# Altium integrated library TI Amplifiers and Linear Special Function Amplifier.IntLib: 708 symbols (part 18 of 47)
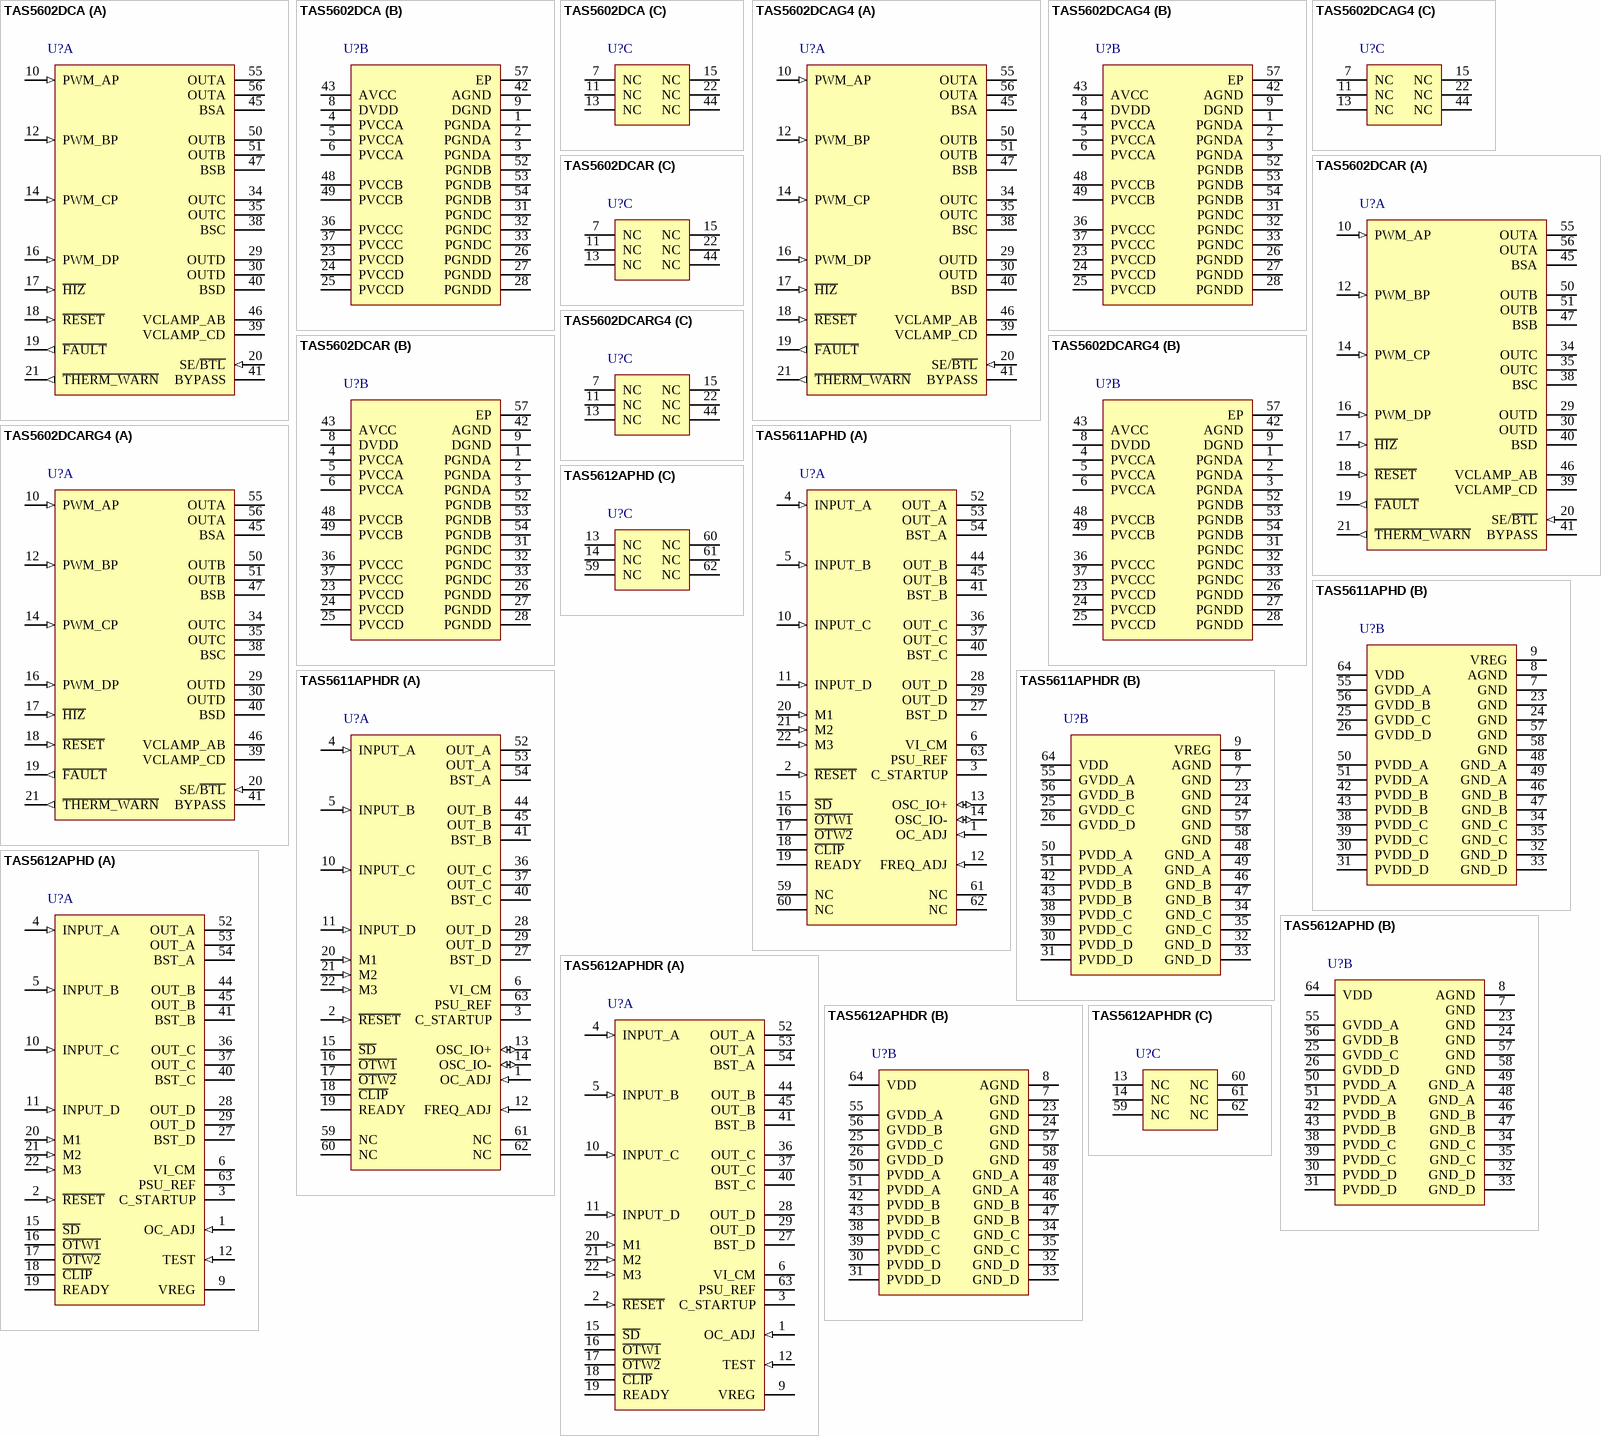
[diagram p56: symbols TAS5602DCA to TAS5612APHDR]

## TAS5612APHDR
designator U?
125 W Stereo / 250 W Mono PurePath(TM) HD Digital-Input Power Stage, 0 to 70 degC, 64-pin QFP (PHD64), Green (RoHS & no Sb/Br); Manufacturer: Texas Instruments; PartNumber: TAS5612APHDR; Analog Supply Max [V]: 13.2; Analog Supply Min [V]: 10.8; Input Type: PWM; Max. Number of Speaker Outputs: 4; Power Stage Supply Min(V): 16; SubFamily: Mid/High-Power Amplifier; DatasheetVersion: SLAS710B; PackageVersion: 4087742/E, 10/2008; PackageReference: PHD64; PackageDescription: 64-Pin Plastic Flat Pack, Body 14 x 14 mm, Pitch 0.8 mm; Supplier 1: Digi-Key; Supplier Part Number 1: 296-27615-2-ND; Supplier 2: Digi-Key; Supplier Part Number 2: 296-27615-1-ND; Supplier 3: Digi-Key; Supplier Part Number 3: 296-27615-6-ND; Supplier 4: Farnell; Supplier Part Number 4: 1839416; Supplier 5: Farnell; Supplier Part Number 5: 1836273; Supplier 6: Newark; Supplier Part Number 6: 23T1386; Supplier 7: Mouser; Supplier Part Number 7: 595-TAS5612APHDR; Eco-Plan: Green (RoHS & no Sb/Br); Mounting Technology: Surface Mount; Code_JEDEC: MS-026; ComponentLink1Description: Manufacturer URL; ComponentLink1URL: http://www.ti.com/; ComponentLink2Description: Datasheet; ComponentLink2URL: http://www.ti.com/general/docs/lit/getliterature.tsp?genericPartNumber=TAS5612A&fileType=pdf; ComponentLink3Description: Package Specification; ComponentLink3URL: http://www.ti.com/lit/ml/mpqf047d/mpqf047d.pdf
footprint TI-PHD64_N (QFP, 64-Leads, Body 14x14mm, Pitch 0.8mm, IPC Medium Density)
footprint TI-PHD64_L (QFP, 64-Leads, Body 14x14mm, Pitch 0.8mm, IPC High Density)
footprint TI-PHD64_M (QFP, 64-Leads, Body 14x14mm, Pitch 0.8mm, IPC Low Density)
part A pins: 1 OC_ADJ (in) "Analog overcurrent programming pin requires resistor to ground.", 2 ~{RESET} (in) "Device reset input; active-low", 3 C_STARTUP "Startup ramp requires a charging capacitor of 4.7 nF to GND", 4 INPUT_A (in) "Input signal for half bridge A", 5 INPUT_B (in) "Input signal for half bridge B", 6 VI_CM "Analog comparator reference node requires close decoupling of 4.7uF to GND", 9 VREG "Digital regulator supply filter pin requires 0.1uF capacitor to GND.", 10 INPUT_C (in) "Input signal for half bridge C", 11 INPUT_D (in) "Input signal for half bridge D", 12 TEST (in) "Connect to VREG node", 15 ~{SD} (oc) "Shutdown signal, open-drain, active-low", 16 ~{OTW1} (oc) "Overtemperature warning signal, open-drain, active-low", 17 ~{OTW2} (oc) "Overtemperature warning signal, open-drain, active-low", 18 ~{CLIP} (oc) "Clipping warning; open drain; active-low", 19 READY (oc) "Normal operation; open-drain; active-high", 20 M1 (in) "Mode selection", 21 M2 (in) "Mode selection", 22 M3 (in) "Mode selection", 27 BST_D "HS bootstrap supply (BST), external 0.033uF capacitor to OUT_D required.", 28 OUT_D (hiz) "Output, half bridge D", 29 OUT_D (hiz) "Output, half bridge D", 36 OUT_C (hiz) "Output, half bridge C", 37 OUT_C (hiz) "Output, half bridge C", 40 BST_C "HS bootstrap supply (BST), external 0.033uF capacitor to OUT_C required.", 41 BST_B "HS bootstrap supply (BST), external 0.033uF capacitor to OUT_B required.", 44 OUT_B (hiz) "Output, half bridge B", 45 OUT_B (hiz) "Output, half bridge B", 52 OUT_A (hiz) "Output, half bridge A", 53 OUT_A (hiz) "Output, half bridge A", 54 BST_A "HS bootstrap supply (BST), external 0.033uF capacitor to OUT_A required.", 63 PSU_REF "PSU Reference requires close decoupling of 4.7uF to GND"
part B pins: 7 GND (power) "Ground", 8 AGND (power) "Analog ground", 23 GND (power) "Ground", 24 GND (power) "Ground", 25 GVDD_C (power) "Gate drive voltage supply requires 0.1uF capacitor to GND", 26 GVDD_D (power) "Gate drive voltage supply requires 0.1uF capacitor to GND", 30 PVDD_D (power) "Power supply input for half bridge D requires close decoupling of 2uF capacitor GND_D", 31 PVDD_D (power) "Power supply input for half bridge D requires close decoupling of 2uF capacitor GND_D", 32 GND_D (power) "Power ground for half bridge D", 33 GND_D (power) "Power ground for half bridge D", 34 GND_C (power) "Power ground for half bridge C", 35 GND_C (power) "Power ground for half bridge C", 38 PVDD_C (power) "Power supply input for half bridge C requires close decoupling of 2uF capacitor GND_C", 39 PVDD_C (power) "Power supply input for half bridge C requires close decoupling of 2uF capacitor GND_C", 42 PVDD_B (power) "Power supply input for half bridge B requires close decoupling of 2uF capacitor GND_B", 43 PVDD_B (power) "Power supply input for half bridge B requires close decoupling of 2uF capacitor GND_B", 46 GND_B (power) "Power ground for half bridge B", 47 GND_B (power) "Power ground for half bridge B", 48 GND_A (power) "Power ground for half bridge A", 49 GND_A (power) "Power ground for half bridge A", 50 PVDD_A (power) "Power supply input for half bridge A requires close decoupling of 2uF capacitor GND_A", 51 PVDD_A (power) "Power supply input for half bridge A requires close decoupling of 2uF capacitor GND_A", 55 GVDD_A (power) "Gate-drive voltage supply requires 0.1uF capacitor to GND", 56 GVDD_B (power) "Gate drive voltage supply requires 0.1uF capacitor to GND", 57 GND (power) "Ground", 58 GND (power) "Ground", 64 VDD (power) "Power supply for digital voltage regulator requires a 47uF capacitor in parallel with a 0.1uF capacitor to GND for decoupling."
part C pins: 13 NC "No connect, pins may be grounded.", 14 NC "No connect, pins may be grounded.", 59 NC "No connect; pins may be grounded.", 60 NC "No connect; pins may be grounded.", 61 NC "No connect; pins may be grounded.", 62 NC "No connect; pins may be grounded."

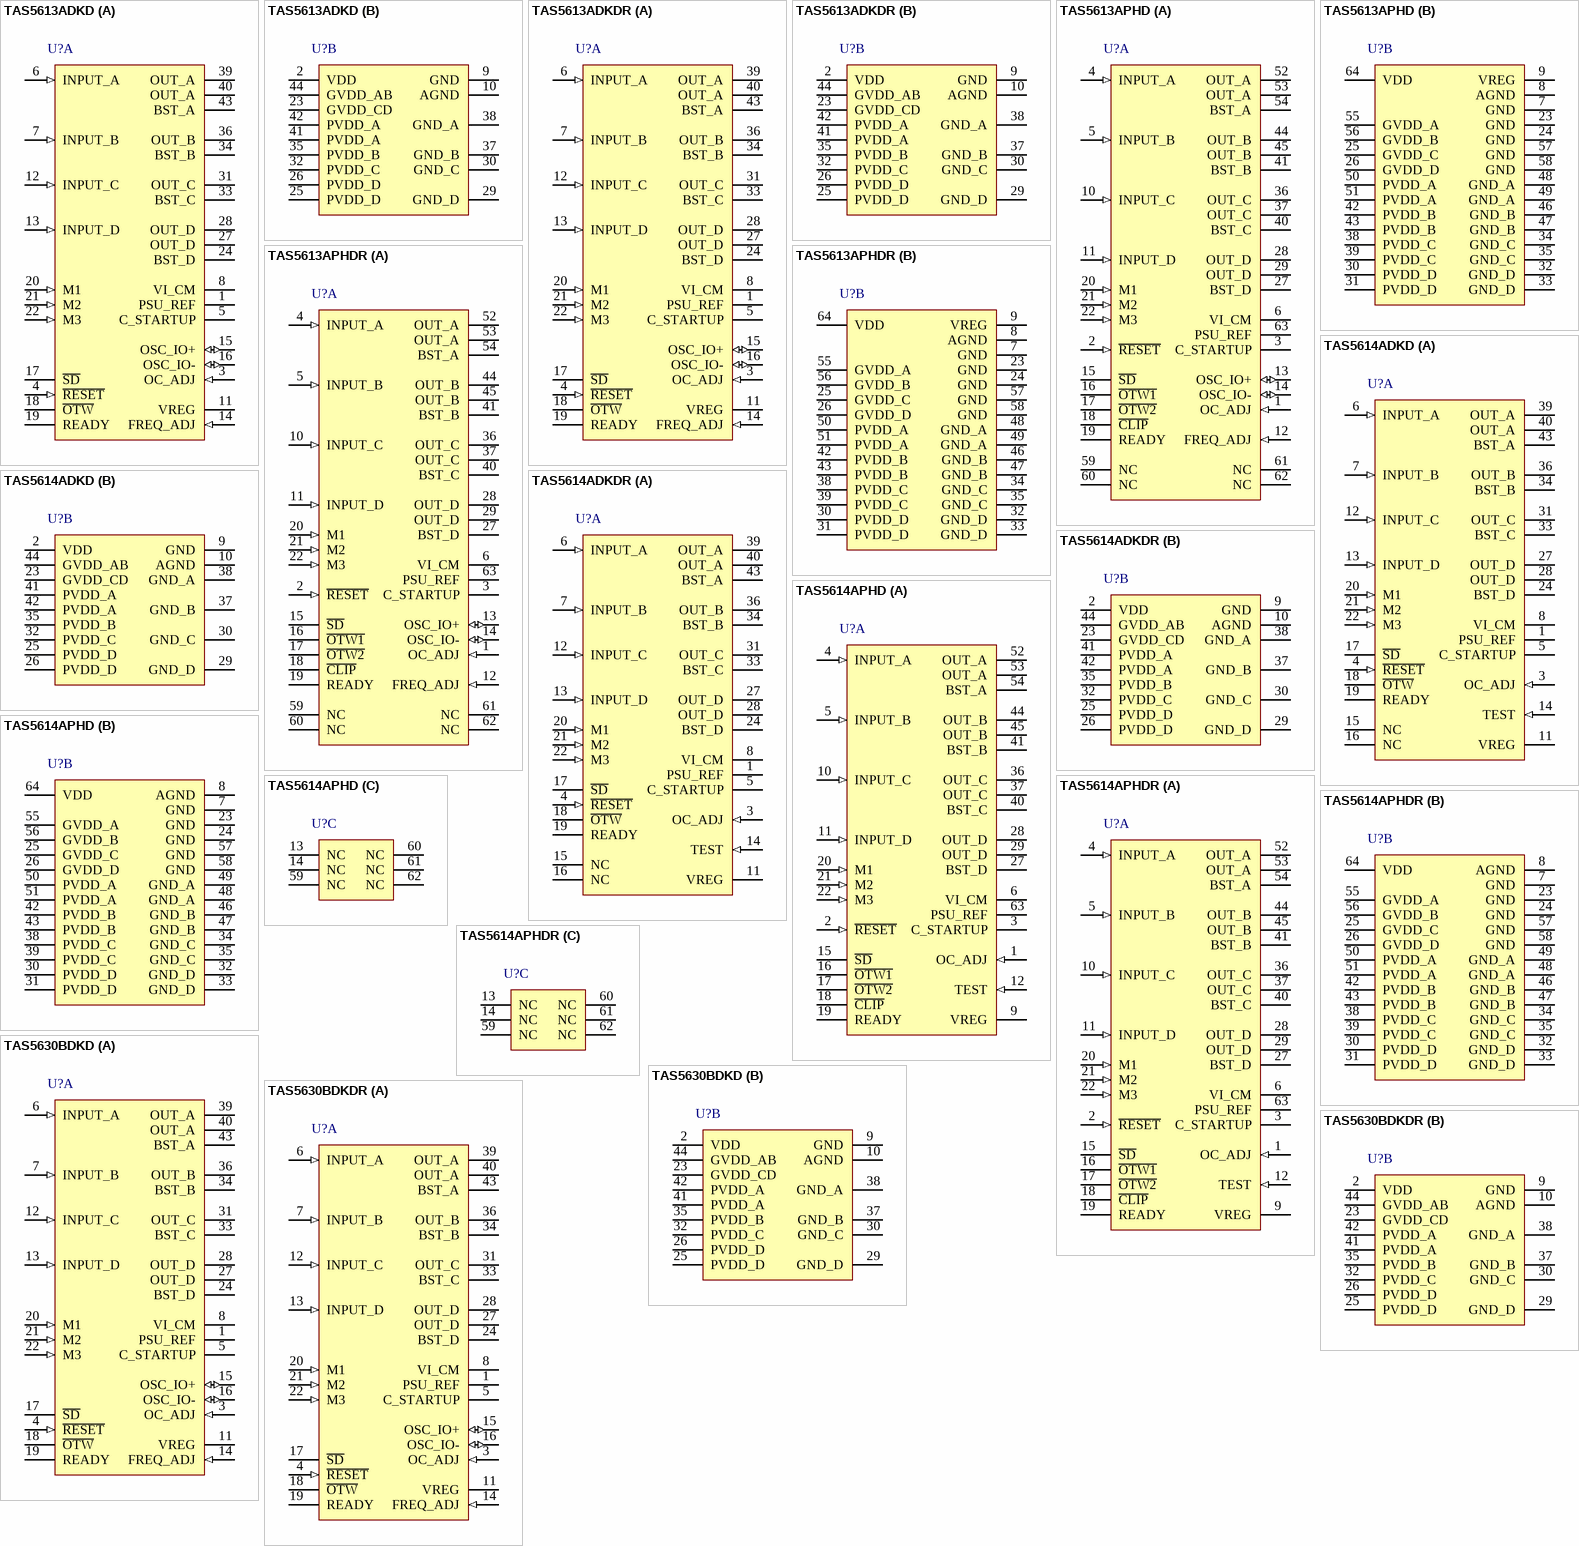
[diagram p17: symbols TAS5613ADKD to TAS5630BDKDR]

## TAS5613ADKD
designator U?
150 W Stereo / 300 W Mono PurePath(TM) HD Analog-Input Power Stage, 0 to 70 degC, 44-pin SOP (DKD44), Green (RoHS & no Sb/Br); Manufacturer: Texas Instruments; PartNumber: TAS5613ADKD; Analog Supply Max [V]: 13.2; Analog Supply Min [V]: 10.8; Input Type: Analog; Max. Number of Speaker Outputs: 4; Power Stage Supply Min(V): 18; SubFamily: Mid/High-Power Amplifier; DatasheetVersion: SLAS711B; PackageVersion: 4204421-3/K, 06/2012; PackageReference: DKD44; PackageDescription: 44-Pin Plastic Small Outline, Body 11 x 15.9 mm, Pitch 0.65 mm; Supplier 1: Digi-Key; Supplier Part Number 1: TAS5613ADKD-ND; Supplier 2: Mouser; Supplier Part Number 2: 595-TAS5613ADKD; Eco-Plan: Green (RoHS & no Sb/Br); Mounting Technology: Surface Mount; ComponentLink1Description: Manufacturer URL; ComponentLink1URL: http://www.ti.com/; ComponentLink2Description: Datasheet; ComponentLink2URL: http://www.ti.com/general/docs/lit/getliterature.tsp?genericPartNumber=TAS5613A&fileType=pdf; ComponentLink3Description: Package Specification; ComponentLink3URL: http://www.ti.com/litv/pdf/mpdi001b
footprint TI-DKD44_N (SOP, 44-Leads, Body 15.9x11mm, Pitch 0.65mm, IPC Medium Density)
footprint TI-DKD44_L (SOP, 44-Leads, Body 15.9x11mm, Pitch 0.65mm, IPC High Density)
footprint TI-DKD44_M (SOP, 44-Leads, Body 15.9x11mm, Pitch 0.65mm, IPC Low Density)
part A pins: 1 PSU_REF, 3 OC_ADJ (in), 4 ~{RESET} (in) "Device reset Input; active low", 5 C_STARTUP, 6 INPUT_A (in) "Input signal for half bridge A", 7 INPUT_B (in) "Input signal for half bridge B", 8 VI_CM, 11 VREG, 12 INPUT_C (in) "Input signal for half bridge C", 13 INPUT_D (in) "Input signal for half bridge D", 14 FREQ_ADJ (in), 15 OSC_IO+ (io) "Oscillator master/slave output/input.", 16 OSC_IO- (io) "Oscillator master/slave output/input.", 17 ~{SD} (oc) "Shutdown signal, open-drain, active-low", 18 ~{OTW} (oc) "Overtemperature warning signal, open-drain, active-low", 19 READY (oc) "Normal operation; open-drain; active-high", 20 M1 (in) "Mode selection", 21 M2 (in) "Mode selection", 22 M3 (in) "Mode selection", 24 BST_D "HS bootstrap supply (BST), external 0.033-uF capacitor to OUT_D required.", 27 OUT_D (hiz) "Output, half bridge D", 28 OUT_D (hiz) "Output, half bridge D", 31 OUT_C (hiz) "Output, half bridge C", 33 BST_C "HS bootstrap supply (BST), external 0.033-uF capacitor to OUT_C required.", 34 BST_B "HS bootstrap supply (BST), external 0.033-uF capacitor to OUT_B required.", 36 OUT_B (hiz) "Output, half bridge B", 39 OUT_A (hiz) "Output, half bridge A", 40 OUT_A (hiz) "Output, half bridge A", 43 BST_A "HS bootstrap supply (BST), external 0.033-uF capacitor to OUT_A required."
part B pins: 2 VDD (power) "Power supply for internal voltage regulator requires a 10-uF capacitor with a 0.1-uF capacitor to GND for decoupling.", 9 GND (power) "Ground", 10 AGND (power) "Analog ground", 23 GVDD_CD (power) "Gate drive voltage supply requires 0.22 uF capacitor to GND_C/GND_D", 25 PVDD_D (power), 26 PVDD_D (power), 29 GND_D (power) "Power ground for half bridge D", 30 GND_C (power) "Power ground for half bridge C", 32 PVDD_C (power), 35 PVDD_B (power), 37 GND_B (power) "Power ground for half bridge B", 38 GND_A (power) "Power ground for half bridge A", 41 PVDD_A (power), 42 PVDD_A (power), 44 GVDD_AB (power) "Gate drive voltage supply requires 0.22 uF capacitor to GND_A/GND_B"

## TAS5613ADKDR
designator U?
150 W Stereo / 300 W Mono PurePath(TM) HD Analog-Input Power Stage, 0 to 70 degC, 44-pin SOP (DKD44), Green (RoHS & no Sb/Br); Manufacturer: Texas Instruments; PartNumber: TAS5613ADKDR; Analog Supply Max [V]: 13.2; Analog Supply Min [V]: 10.8; Input Type: Analog; Max. Number of Speaker Outputs: 4; Power Stage Supply Min(V): 18; SubFamily: Mid/High-Power Amplifier; DatasheetVersion: SLAS711B; PackageVersion: 4204421-3/K, 06/2012; PackageReference: DKD44; PackageDescription: 44-Pin Plastic Small Outline, Body 11 x 15.9 mm, Pitch 0.65 mm; Supplier 1: Digi-Key; Supplier Part Number 1: 296-29706-2-ND; Supplier 2: Digi-Key; Supplier Part Number 2: 296-29706-1-ND; Supplier 3: Digi-Key; Supplier Part Number 3: 296-29706-6-ND; Supplier 4: Newark; Supplier Part Number 4: 71T5395; Supplier 5: Mouser; Supplier Part Number 5: 595-TAS5613ADKDR; Eco-Plan: Green (RoHS & no Sb/Br); Mounting Technology: Surface Mount; ComponentLink1Description: Manufacturer URL; ComponentLink1URL: http://www.ti.com/; ComponentLink2Description: Datasheet; ComponentLink2URL: http://www.ti.com/general/docs/lit/getliterature.tsp?genericPartNumber=TAS5613A&fileType=pdf; ComponentLink3Description: Package Specification; ComponentLink3URL: http://www.ti.com/litv/pdf/mpdi001b
footprint TI-DKD44_N (SOP, 44-Leads, Body 15.9x11mm, Pitch 0.65mm, IPC Medium Density)
footprint TI-DKD44_L (SOP, 44-Leads, Body 15.9x11mm, Pitch 0.65mm, IPC High Density)
footprint TI-DKD44_M (SOP, 44-Leads, Body 15.9x11mm, Pitch 0.65mm, IPC Low Density)
part A pins: 1 PSU_REF, 3 OC_ADJ (in), 4 ~{RESET} (in) "Device reset Input; active low", 5 C_STARTUP, 6 INPUT_A (in) "Input signal for half bridge A", 7 INPUT_B (in) "Input signal for half bridge B", 8 VI_CM, 11 VREG, 12 INPUT_C (in) "Input signal for half bridge C", 13 INPUT_D (in) "Input signal for half bridge D", 14 FREQ_ADJ (in), 15 OSC_IO+ (io) "Oscillator master/slave output/input.", 16 OSC_IO- (io) "Oscillator master/slave output/input.", 17 ~{SD} (oc) "Shutdown signal, open-drain, active-low", 18 ~{OTW} (oc) "Overtemperature warning signal, open-drain, active-low", 19 READY (oc) "Normal operation; open-drain; active-high", 20 M1 (in) "Mode selection", 21 M2 (in) "Mode selection", 22 M3 (in) "Mode selection", 24 BST_D "HS bootstrap supply (BST), external 0.033-uF capacitor to OUT_D required.", 27 OUT_D (hiz) "Output, half bridge D", 28 OUT_D (hiz) "Output, half bridge D", 31 OUT_C (hiz) "Output, half bridge C", 33 BST_C "HS bootstrap supply (BST), external 0.033-uF capacitor to OUT_C required.", 34 BST_B "HS bootstrap supply (BST), external 0.033-uF capacitor to OUT_B required.", 36 OUT_B (hiz) "Output, half bridge B", 39 OUT_A (hiz) "Output, half bridge A", 40 OUT_A (hiz) "Output, half bridge A", 43 BST_A "HS bootstrap supply (BST), external 0.033-uF capacitor to OUT_A required."
part B pins: 2 VDD (power) "Power supply for internal voltage regulator requires a 10-uF capacitor with a 0.1-uF capacitor to GND for decoupling.", 9 GND (power) "Ground", 10 AGND (power) "Analog ground", 23 GVDD_CD (power) "Gate drive voltage supply requires 0.22 uF capacitor to GND_C/GND_D", 25 PVDD_D (power), 26 PVDD_D (power), 29 GND_D (power) "Power ground for half bridge D", 30 GND_C (power) "Power ground for half bridge C", 32 PVDD_C (power), 35 PVDD_B (power), 37 GND_B (power) "Power ground for half bridge B", 38 GND_A (power) "Power ground for half bridge A", 41 PVDD_A (power), 42 PVDD_A (power), 44 GVDD_AB (power) "Gate drive voltage supply requires 0.22 uF capacitor to GND_A/GND_B"

## TAS5613APHD
designator U?
150 W Stereo / 300 W Mono PurePath(TM) HD Analog-Input Power Stage, 0 to 70 degC, 64-pin QFP (PHD64), Green (RoHS & no Sb/Br); Manufacturer: Texas Instruments; PartNumber: TAS5613APHD; Analog Supply Max [V]: 13.2; Analog Supply Min [V]: 10.8; Input Type: Analog; Max. Number of Speaker Outputs: 4; Power Stage Supply Min(V): 18; SubFamily: Mid/High-Power Amplifier; DatasheetVersion: SLAS711B; PackageVersion: 4087742/E, 10/2008; PackageReference: PHD64; PackageDescription: 64-Pin Plastic Flat Pack, Body 14 x 14 mm, Pitch 0.8 mm; Supplier 1: Digi-Key; Supplier Part Number 1: 296-25588-ND; Supplier 2: Mouser; Supplier Part Number 2: 595-TAS5613APHD; Eco-Plan: Green (RoHS & no Sb/Br); Mounting Technology: Surface Mount; Code_JEDEC: MS-026; ComponentLink1Description: Manufacturer URL; ComponentLink1URL: http://www.ti.com/; ComponentLink2Description: Datasheet; ComponentLink2URL: http://www.ti.com/general/docs/lit/getliterature.tsp?genericPartNumber=TAS5613A&fileType=pdf; ComponentLink3Description: Package Specification; ComponentLink3URL: http://www.ti.com/lit/ml/mpqf047d/mpqf047d.pdf
footprint TI-PHD64_N (QFP, 64-Leads, Body 14x14mm, Pitch 0.8mm, IPC Medium Density)
footprint TI-PHD64_L (QFP, 64-Leads, Body 14x14mm, Pitch 0.8mm, IPC High Density)
footprint TI-PHD64_M (QFP, 64-Leads, Body 14x14mm, Pitch 0.8mm, IPC Low Density)
part A pins: 1 OC_ADJ (in) "Analog overcurrent programming pin requires 30k ohm resistor to ground.", 2 ~{RESET} (in) "Device reset Input; active low, requires 47k ohm pull up resistor to VREG", 3 C_STARTUP "Start up ramp requires a charging capacitor of 4.7 nF to GND", 4 INPUT_A (in) "Input signal for half bridge A", 5 INPUT_B (in) "Input signal for half bridge B", 6 VI_CM "Analog comparator reference node requires close decoupling of 1 nF to GND.", 10 INPUT_C (in) "Input signal for half bridge C", 11 INPUT_D (in) "Input signal for half bridge D", 12 FREQ_ADJ (in) "PWM frame rate programming pin requires resistor to GND", 13 OSC_IO+ (io) "Oscillator master/slave output/input", 14 OSC_IO- (io) "Oscillator master/slave output/input", 15 ~{SD} (oc) "Shutdown signal, open-drain, active-low", 16 ~{OTW1} (oc) "Overtemperature warning signal, open-drain, active-low", 17 ~{OTW2} (oc) "Overtemperature warning signal, open-drain, active-low", 18 ~{CLIP} (oc) "Clipping warning; open drain; active-low", 19 READY (oc) "Normal operation; open-drain; active-high", 20 M1 (in) "Mode selection", 21 M2 (in) "Mode selection", 22 M3 (in) "Mode selection", 27 BST_D "HS bootstrap supply (BST), external 0.033 uF capacitor to OUT_D required.", 28 OUT_D (hiz) "Output, half-bridge D", 29 OUT_D (hiz) "Output, half-bridge D", 36 OUT_C (hiz) "Output, half-bridge C", 37 OUT_C (hiz) "Output, half-bridge C", 40 BST_C "HS bootstrap supply (BST), external 0.033 uF capacitor to OUT_C required.", 41 BST_B "HS bootstrap supply (BST), external 0.033 uF capacitor to OUT_B required.", 44 OUT_B (hiz) "Output, half-bridge B", 45 OUT_B (hiz) "Output, half-bridge B", 52 OUT_A (hiz) "Output, half-bridge A", 53 OUT_A (hiz) "Output, half-bridge A", 54 BST_A "HS bootstrap supply (BST), external 0.033 uF capacitor to OUT_A required.", 59 NC "No connect; pins may be grounded.", 60 NC "No connect; pins may be grounded.", 61 NC "No connect; pins may be grounded.", 62 NC "No connect; pins may be grounded.", 63 PSU_REF "PSU reference requires close decoupling of 330 pF to AGND."
part B pins: 7 GND (power) "Ground", 8 AGND (power) "Analog ground", 9 VREG "Digital regulator supply filter pin requires 0.1-uF capacitor to GND", 23 GND (power) "Ground", 24 GND (power) "Ground", 25 GVDD_C (power) "Gate drive voltage supply requires 0.1 uF capacitor to GND_C", 26 GVDD_D (power) "Gate drive voltage supply requires 0.1 uF capacitor to GND_D", 30 PVDD_D (power) "Power supply input for half bridge D requires close decoupling of 2uF capacitor GND_D", 31 PVDD_D (power) "Power supply input for half bridge D requires close decoupling of 2uF capacitor GND_D", 32 GND_D (power) "Power ground for half-bridge D", 33 GND_D (power) "Power ground for half-bridge D", 34 GND_C (power) "Power ground for half-bridge C", 35 GND_C (power) "Power ground for half-bridge C", 38 PVDD_C (power) "Power supply input for half bridge C requires close decoupling of 2uF capacitor GND_C", 39 PVDD_C (power) "Power supply input for half bridge C requires close decoupling of 2uF capacitor GND_C", 42 PVDD_B (power) "Power supply input for half bridge B requires close decoupling of 2uF capacitor GND_B", 43 PVDD_B (power) "Power supply input for half bridge B requires close decoupling of 2uF capacitor GND_B", 46 GND_B (power) "Power ground for half-bridge B", 47 GND_B (power) "Power ground for half-bridge B", 48 GND_A (power) "Power ground for half-bridge A", 49 GND_A (power) "Power ground for half-bridge A", 50 PVDD_A (power) "Power supply input for half bridge A requires close decoupling of 2uF capacitor GND_A", 51 PVDD_A (power) "Power supply input for half bridge A requires close decoupling of 2uF capacitor GND_A", 55 GVDD_A (power) "Gate-drive voltage supply requires 0.1 uF capacitor to GND_A", 56 GVDD_B (power) "Gate drive voltage supply requires 0.1 uF capacitor to GND_B", 57 GND (power) "Ground", 58 GND (power) "Ground", 64 VDD (power) "Power supply for digital voltage regulator requires a 10 uF capacitor in parallel with a 0.1 uF capacitor to GND for decoupling."

## TAS5613APHDR
designator U?
150 W Stereo / 300 W Mono PurePath(TM) HD Analog-Input Power Stage, 0 to 70 degC, 64-pin QFP (PHD64), Green (RoHS & no Sb/Br); Manufacturer: Texas Instruments; PartNumber: TAS5613APHDR; Analog Supply Max [V]: 13.2; Analog Supply Min [V]: 10.8; Input Type: Analog; Max. Number of Speaker Outputs: 4; Power Stage Supply Min(V): 18; SubFamily: Mid/High-Power Amplifier; DatasheetVersion: SLAS711B; PackageVersion: 4087742/E, 10/2008; PackageReference: PHD64; PackageDescription: 64-Pin Plastic Flat Pack, Body 14 x 14 mm, Pitch 0.8 mm; Supplier 1: Digi-Key; Supplier Part Number 1: 296-27616-2-ND; Supplier 2: Digi-Key; Supplier Part Number 2: 296-27616-1-ND; Supplier 3: Digi-Key; Supplier Part Number 3: 296-27616-6-ND; Supplier 4: Mouser; Supplier Part Number 4: 595-TAS5613APHDR; Eco-Plan: Green (RoHS & no Sb/Br); Mounting Technology: Surface Mount; Code_JEDEC: MS-026; ComponentLink1Description: Manufacturer URL; ComponentLink1URL: http://www.ti.com/; ComponentLink2Description: Datasheet; ComponentLink2URL: http://www.ti.com/general/docs/lit/getliterature.tsp?genericPartNumber=TAS5613A&fileType=pdf; ComponentLink3Description: Package Specification; ComponentLink3URL: http://www.ti.com/lit/ml/mpqf047d/mpqf047d.pdf
footprint TI-PHD64_N (QFP, 64-Leads, Body 14x14mm, Pitch 0.8mm, IPC Medium Density)
footprint TI-PHD64_L (QFP, 64-Leads, Body 14x14mm, Pitch 0.8mm, IPC High Density)
footprint TI-PHD64_M (QFP, 64-Leads, Body 14x14mm, Pitch 0.8mm, IPC Low Density)
part A pins: 1 OC_ADJ (in) "Analog overcurrent programming pin requires 30k ohm resistor to ground.", 2 ~{RESET} (in) "Device reset Input; active low, requires 47k ohm pull up resistor to VREG", 3 C_STARTUP "Start up ramp requires a charging capacitor of 4.7 nF to GND", 4 INPUT_A (in) "Input signal for half bridge A", 5 INPUT_B (in) "Input signal for half bridge B", 6 VI_CM "Analog comparator reference node requires close decoupling of 1 nF to GND.", 10 INPUT_C (in) "Input signal for half bridge C", 11 INPUT_D (in) "Input signal for half bridge D", 12 FREQ_ADJ (in) "PWM frame rate programming pin requires resistor to GND", 13 OSC_IO+ (io) "Oscillator master/slave output/input", 14 OSC_IO- (io) "Oscillator master/slave output/input", 15 ~{SD} (oc) "Shutdown signal, open-drain, active-low", 16 ~{OTW1} (oc) "Overtemperature warning signal, open-drain, active-low", 17 ~{OTW2} (oc) "Overtemperature warning signal, open-drain, active-low", 18 ~{CLIP} (oc) "Clipping warning; open drain; active-low", 19 READY (oc) "Normal operation; open-drain; active-high", 20 M1 (in) "Mode selection", 21 M2 (in) "Mode selection", 22 M3 (in) "Mode selection", 27 BST_D "HS bootstrap supply (BST), external 0.033 uF capacitor to OUT_D required.", 28 OUT_D (hiz) "Output, half-bridge D", 29 OUT_D (hiz) "Output, half-bridge D", 36 OUT_C (hiz) "Output, half-bridge C", 37 OUT_C (hiz) "Output, half-bridge C", 40 BST_C "HS bootstrap supply (BST), external 0.033 uF capacitor to OUT_C required.", 41 BST_B "HS bootstrap supply (BST), external 0.033 uF capacitor to OUT_B required.", 44 OUT_B (hiz) "Output, half-bridge B", 45 OUT_B (hiz) "Output, half-bridge B", 52 OUT_A (hiz) "Output, half-bridge A", 53 OUT_A (hiz) "Output, half-bridge A", 54 BST_A "HS bootstrap supply (BST), external 0.033 uF capacitor to OUT_A required.", 59 NC "No connect; pins may be grounded.", 60 NC "No connect; pins may be grounded.", 61 NC "No connect; pins may be grounded.", 62 NC "No connect; pins may be grounded.", 63 PSU_REF "PSU reference requires close decoupling of 330 pF to AGND."
part B pins: 7 GND (power) "Ground", 8 AGND (power) "Analog ground", 9 VREG "Digital regulator supply filter pin requires 0.1-uF capacitor to GND", 23 GND (power) "Ground", 24 GND (power) "Ground", 25 GVDD_C (power) "Gate drive voltage supply requires 0.1 uF capacitor to GND_C", 26 GVDD_D (power) "Gate drive voltage supply requires 0.1 uF capacitor to GND_D", 30 PVDD_D (power) "Power supply input for half bridge D requires close decoupling of 2uF capacitor GND_D", 31 PVDD_D (power) "Power supply input for half bridge D requires close decoupling of 2uF capacitor GND_D", 32 GND_D (power) "Power ground for half-bridge D", 33 GND_D (power) "Power ground for half-bridge D", 34 GND_C (power) "Power ground for half-bridge C", 35 GND_C (power) "Power ground for half-bridge C", 38 PVDD_C (power) "Power supply input for half bridge C requires close decoupling of 2uF capacitor GND_C", 39 PVDD_C (power) "Power supply input for half bridge C requires close decoupling of 2uF capacitor GND_C", 42 PVDD_B (power) "Power supply input for half bridge B requires close decoupling of 2uF capacitor GND_B", 43 PVDD_B (power) "Power supply input for half bridge B requires close decoupling of 2uF capacitor GND_B", 46 GND_B (power) "Power ground for half-bridge B", 47 GND_B (power) "Power ground for half-bridge B", 48 GND_A (power) "Power ground for half-bridge A", 49 GND_A (power) "Power ground for half-bridge A", 50 PVDD_A (power) "Power supply input for half bridge A requires close decoupling of 2uF capacitor GND_A", 51 PVDD_A (power) "Power supply input for half bridge A requires close decoupling of 2uF capacitor GND_A", 55 GVDD_A (power) "Gate-drive voltage supply requires 0.1 uF capacitor to GND_A", 56 GVDD_B (power) "Gate drive voltage supply requires 0.1 uF capacitor to GND_B", 57 GND (power) "Ground", 58 GND (power) "Ground", 64 VDD (power) "Power supply for digital voltage regulator requires a 10 uF capacitor in parallel with a 0.1 uF capacitor to GND for decoupling."

## TAS5614ADKD
designator U?
150 W Stereo / 300 W Mono PurePath(TM) HD Digital-Input Power Stage, 0 to 70 degC, 44-pin SOP (DKD44), Green (RoHS & no Sb/Br); Manufacturer: Texas Instruments; PartNumber: TAS5614ADKD; Analog Supply Max [V]: 13.2; Analog Supply Min [V]: 10.8; Input Type: PWM; Max. Number of Speaker Outputs: 4; Power Stage Supply Min(V): 18; SubFamily: Mid/High-Power Amplifier; DatasheetVersion: SLAS712B; PackageVersion: 4204421-3/K, 06/2012; PackageReference: DKD44; PackageDescription: 44-Pin Plastic Small Outline, Body 11 x 15.9 mm, Pitch 0.65 mm; Supplier 1: Digi-Key; Supplier Part Number 1: TAS5614ADKD-ND; Supplier 2: Mouser; Supplier Part Number 2: 595-TAS5614ADKD; Eco-Plan: Green (RoHS & no Sb/Br); Mounting Technology: Surface Mount; ComponentLink1Description: Manufacturer URL; ComponentLink1URL: http://www.ti.com/; ComponentLink2Description: Datasheet; ComponentLink2URL: http://www.ti.com/general/docs/lit/getliterature.tsp?genericPartNumber=TAS5614A&fileType=pdf; ComponentLink3Description: Package Specification; ComponentLink3URL: http://www.ti.com/litv/pdf/mpdi001b
footprint TI-DKD44_N (SOP, 44-Leads, Body 15.9x11mm, Pitch 0.65mm, IPC Medium Density)
footprint TI-DKD44_L (SOP, 44-Leads, Body 15.9x11mm, Pitch 0.65mm, IPC High Density)
footprint TI-DKD44_M (SOP, 44-Leads, Body 15.9x11mm, Pitch 0.65mm, IPC Low Density)
part A pins: 1 PSU_REF "PSU Reference requires close decoupling of 4.7uF to AGND", 3 OC_ADJ (in) "Analog overcurrent programming pin requires resistor to ground.", 4 ~{RESET} (in) "Device reset input; active-low", 5 C_STARTUP "Startup ramp requires a charging capacitor of 4.7 nF to AGND", 6 INPUT_A (in) "Input signal for half bridge A", 7 INPUT_B (in) "Input signal for half bridge B", 8 VI_CM "Analog comparator reference node requires close decoupling of 4.7uF to AGND", 11 VREG "Digital regulator supply filter pin requires 0.1-uF capacitor to AGND.", 12 INPUT_C (in) "Input signal for half bridge C", 13 INPUT_D (in) "Input signal for half bridge D", 14 TEST (in) "Connect to VREG node", 15 NC "No connect, pins may be grounded.", 16 NC "No connect, pins may be grounded.", 17 ~{SD} (oc) "Shutdown signal, open-drain, active-low", 18 ~{OTW} (oc) "Overtemperature warning signal, open-drain, active-low", 19 READY (oc) "Normal operation; open-drain; active-high", 20 M1 (in) "Mode selection", 21 M2 (in) "Mode selection", 22 M3 (in) "Mode selection", 24 BST_D "HS bootstrap supply (BST), external 0.033-uF capacitor to OUT_D required.", 27 OUT_D (hiz) "Output, half bridge D", 28 OUT_D (hiz) "Output, half bridge D", 31 OUT_C (hiz) "Output, half bridge C", 33 BST_C "HS bootstrap supply (BST), external 0.033-uF capacitor to OUT_C required.", 34 BST_B "HS bootstrap supply (BST), external 0.033-uF capacitor to OUT_B required.", 36 OUT_B (hiz) "Output, half bridge B", 39 OUT_A (hiz) "Output, half bridge A", 40 OUT_A (hiz) "Output, half bridge A", 43 BST_A "HS bootstrap supply (BST), external 0.033-uF capacitor to OUT_A required."
part B pins: 2 VDD (power) "Power supply for digital voltage regulator requires a 47uF capacitor in parallel with a 0.1uF capacitor to GND for decoupling.", 9 GND (power) "Ground", 10 AGND (power) "Analog ground", 23 GVDD_CD (power) "Gate drive voltage supply requires 0.22-uF capacitor to AGND.", 25 PVDD_D (power) "Power-supply input for half-bridge D requires close decoupling with 2.2uF capacitor to GND_D.", 26 PVDD_D (power) "Power-supply input for half-bridge D requires close decoupling with 2.2uF capacitor to GND_D.", 29 GND_D (power) "Power ground for half bridge D", 30 GND_C (power) "Power ground for half bridge C", 32 PVDD_C (power) "Power-supply input for half-bridge C requires close decoupling with 2.2uF capacitor to GND_C.", 35 PVDD_B (power) "Power-supply input for half-bridge B requires close decoupling with 2.2uF capacitor to GND_B.", 37 GND_B (power) "Power ground for half bridge B", 38 GND_A (power) "Power ground for half bridge A", 41 PVDD_A (power) "Power-supply input for half-bridge A requires close decoupling with 2.2uF capacitor to GND_A.", 42 PVDD_A (power) "Power-supply input for half-bridge A requires close decoupling with 2.2uF capacitor to GND_A.", 44 GVDD_AB (power) "Gate drive voltage supply requires 0.22-uF capacitor to AGND."

## TAS5614ADKDR
designator U?
150 W Stereo / 300 W Mono PurePath(TM) HD Digital-Input Power Stage, 0 to 70 degC, 44-pin SOP (DKD44), Green (RoHS & no Sb/Br); Manufacturer: Texas Instruments; PartNumber: TAS5614ADKDR; Analog Supply Max [V]: 13.2; Analog Supply Min [V]: 10.8; Input Type: PWM; Max. Number of Speaker Outputs: 4; Power Stage Supply Min(V): 18; SubFamily: Mid/High-Power Amplifier; DatasheetVersion: SLAS712B; PackageVersion: 4204421-3/K, 06/2012; PackageReference: DKD44; PackageDescription: 44-Pin Plastic Small Outline, Body 11 x 15.9 mm, Pitch 0.65 mm; Supplier 1: Digi-Key; Supplier Part Number 1: 296-28060-2-ND; Supplier 2: Digi-Key; Supplier Part Number 2: 296-28060-1-ND; Supplier 3: Digi-Key; Supplier Part Number 3: 296-28060-6-ND; Supplier 4: Mouser; Supplier Part Number 4: 595-TAS5614ADKDR; Eco-Plan: Green (RoHS & no Sb/Br); Mounting Technology: Surface Mount; ComponentLink1Description: Manufacturer URL; ComponentLink1URL: http://www.ti.com/; ComponentLink2Description: Datasheet; ComponentLink2URL: http://www.ti.com/general/docs/lit/getliterature.tsp?genericPartNumber=TAS5614A&fileType=pdf; ComponentLink3Description: Package Specification; ComponentLink3URL: http://www.ti.com/litv/pdf/mpdi001b
footprint TI-DKD44_N (SOP, 44-Leads, Body 15.9x11mm, Pitch 0.65mm, IPC Medium Density)
footprint TI-DKD44_L (SOP, 44-Leads, Body 15.9x11mm, Pitch 0.65mm, IPC High Density)
footprint TI-DKD44_M (SOP, 44-Leads, Body 15.9x11mm, Pitch 0.65mm, IPC Low Density)
part A pins: 1 PSU_REF "PSU Reference requires close decoupling of 4.7uF to AGND", 3 OC_ADJ (in) "Analog overcurrent programming pin requires resistor to ground.", 4 ~{RESET} (in) "Device reset input; active-low", 5 C_STARTUP "Startup ramp requires a charging capacitor of 4.7 nF to AGND", 6 INPUT_A (in) "Input signal for half bridge A", 7 INPUT_B (in) "Input signal for half bridge B", 8 VI_CM "Analog comparator reference node requires close decoupling of 4.7uF to AGND", 11 VREG "Digital regulator supply filter pin requires 0.1-uF capacitor to AGND.", 12 INPUT_C (in) "Input signal for half bridge C", 13 INPUT_D (in) "Input signal for half bridge D", 14 TEST (in) "Connect to VREG node", 15 NC "No connect, pins may be grounded.", 16 NC "No connect, pins may be grounded.", 17 ~{SD} (oc) "Shutdown signal, open-drain, active-low", 18 ~{OTW} (oc) "Overtemperature warning signal, open-drain, active-low", 19 READY (oc) "Normal operation; open-drain; active-high", 20 M1 (in) "Mode selection", 21 M2 (in) "Mode selection", 22 M3 (in) "Mode selection", 24 BST_D "HS bootstrap supply (BST), external 0.033-uF capacitor to OUT_D required.", 27 OUT_D (hiz) "Output, half bridge D", 28 OUT_D (hiz) "Output, half bridge D", 31 OUT_C (hiz) "Output, half bridge C", 33 BST_C "HS bootstrap supply (BST), external 0.033-uF capacitor to OUT_C required.", 34 BST_B "HS bootstrap supply (BST), external 0.033-uF capacitor to OUT_B required.", 36 OUT_B (hiz) "Output, half bridge B", 39 OUT_A (hiz) "Output, half bridge A", 40 OUT_A (hiz) "Output, half bridge A", 43 BST_A "HS bootstrap supply (BST), external 0.033-uF capacitor to OUT_A required."
part B pins: 2 VDD (power) "Power supply for digital voltage regulator requires a 47uF capacitor in parallel with a 0.1uF capacitor to GND for decoupling.", 9 GND (power) "Ground", 10 AGND (power) "Analog ground", 23 GVDD_CD (power) "Gate drive voltage supply requires 0.22-uF capacitor to AGND.", 25 PVDD_D (power) "Power-supply input for half-bridge D requires close decoupling with 2.2uF capacitor to GND_D.", 26 PVDD_D (power) "Power-supply input for half-bridge D requires close decoupling with 2.2uF capacitor to GND_D.", 29 GND_D (power) "Power ground for half bridge D", 30 GND_C (power) "Power ground for half bridge C", 32 PVDD_C (power) "Power-supply input for half-bridge C requires close decoupling with 2.2uF capacitor to GND_C.", 35 PVDD_B (power) "Power-supply input for half-bridge B requires close decoupling with 2.2uF capacitor to GND_B.", 37 GND_B (power) "Power ground for half bridge B", 38 GND_A (power) "Power ground for half bridge A", 41 PVDD_A (power) "Power-supply input for half-bridge A requires close decoupling with 2.2uF capacitor to GND_A.", 42 PVDD_A (power) "Power-supply input for half-bridge A requires close decoupling with 2.2uF capacitor to GND_A.", 44 GVDD_AB (power) "Gate drive voltage supply requires 0.22-uF capacitor to AGND."

## TAS5614APHD
designator U?
150 W Stereo / 300 W Mono PurePath(TM) HD Digital-Input Power Stage, 0 to 70 degC, 64-pin QFP (PHD64), Green (RoHS & no Sb/Br); Manufacturer: Texas Instruments; PartNumber: TAS5614APHD; Analog Supply Max [V]: 13.2; Analog Supply Min [V]: 10.8; Input Type: PWM; Max. Number of Speaker Outputs: 4; Power Stage Supply Min(V): 18; SubFamily: Mid/High-Power Amplifier; DatasheetVersion: SLAS712B; PackageVersion: 4087742/E, 10/2008; PackageReference: PHD64; PackageDescription: 64-Pin Plastic Flat Pack, Body 14 x 14 mm, Pitch 0.8 mm; Supplier 1: Digi-Key; Supplier Part Number 1: TAS5614APHD-ND; Supplier 2: Mouser; Supplier Part Number 2: 595-TAS5614APHD; Eco-Plan: Green (RoHS & no Sb/Br); Mounting Technology: Surface Mount; Code_JEDEC: MS-026; ComponentLink1Description: Manufacturer URL; ComponentLink1URL: http://www.ti.com/; ComponentLink2Description: Datasheet; ComponentLink2URL: http://www.ti.com/general/docs/lit/getliterature.tsp?genericPartNumber=TAS5614A&fileType=pdf; ComponentLink3Description: Package Specification; ComponentLink3URL: http://www.ti.com/lit/ml/mpqf047d/mpqf047d.pdf
footprint TI-PHD64_N (QFP, 64-Leads, Body 14x14mm, Pitch 0.8mm, IPC Medium Density)
footprint TI-PHD64_L (QFP, 64-Leads, Body 14x14mm, Pitch 0.8mm, IPC High Density)
footprint TI-PHD64_M (QFP, 64-Leads, Body 14x14mm, Pitch 0.8mm, IPC Low Density)
part A pins: 1 OC_ADJ (in) "Analog overcurrent programming pin requires resistor to ground.", 2 ~{RESET} (in) "Device reset input; active-low", 3 C_STARTUP "Startup ramp requires a charging capacitor of 4.7 nF to GND", 4 INPUT_A (in) "Input signal for half bridge A", 5 INPUT_B (in) "Input signal for half bridge B", 6 VI_CM "Analog comparator reference node requires close decoupling of 4.7uF to GND", 9 VREG "Digital regulator supply filter pin requires 0.1uF capacitor to GND.", 10 INPUT_C (in) "Input signal for half bridge C", 11 INPUT_D (in) "Input signal for half bridge D", 12 TEST (in) "Connect to VREG node", 15 ~{SD} (oc) "Shutdown signal, open-drain, active-low", 16 ~{OTW1} (oc) "Overtemperature warning signal, open-drain, active-low", 17 ~{OTW2} (oc) "Overtemperature warning signal, open-drain, active-low", 18 ~{CLIP} (oc) "Clipping warning; open drain; active-low", 19 READY (oc) "Normal operation; open-drain; active-high", 20 M1 (in) "Mode selection", 21 M2 (in) "Mode selection", 22 M3 (in) "Mode selection", 27 BST_D "HS bootstrap supply (BST), external 0.033uF capacitor to OUT_D required.", 28 OUT_D (hiz) "Output, half bridge D", 29 OUT_D (hiz) "Output, half bridge D", 36 OUT_C (hiz) "Output, half bridge C", 37 OUT_C (hiz) "Output, half bridge C", 40 BST_C "HS bootstrap supply (BST), external 0.033uF capacitor to OUT_C required.", 41 BST_B "HS bootstrap supply (BST), external 0.033uF capacitor to OUT_B required.", 44 OUT_B (hiz) "Output, half bridge B", 45 OUT_B (hiz) "Output, half bridge B", 52 OUT_A (hiz) "Output, half bridge A", 53 OUT_A (hiz) "Output, half bridge A", 54 BST_A "HS bootstrap supply (BST), external 0.033uF capacitor to OUT_A required.", 63 PSU_REF "PSU Reference requires close decoupling of 4.7uF to GND"
part B pins: 7 GND (power) "Ground", 8 AGND (power) "Analog ground", 23 GND (power) "Ground", 24 GND (power) "Ground", 25 GVDD_C (power) "Gate drive voltage supply requires 0.1uF capacitor to GND", 26 GVDD_D (power) "Gate drive voltage supply requires 0.1uF capacitor to GND", 30 PVDD_D (power) "Power supply input for half bridge D requires close decoupling of 2uF capacitor GND_D", 31 PVDD_D (power) "Power supply input for half bridge D requires close decoupling of 2uF capacitor GND_D", 32 GND_D (power) "Power ground for half bridge D", 33 GND_D (power) "Power ground for half bridge D", 34 GND_C (power) "Power ground for half bridge C", 35 GND_C (power) "Power ground for half bridge C", 38 PVDD_C (power) "Power supply input for half bridge C requires close decoupling of 2uF capacitor GND_C", 39 PVDD_C (power) "Power supply input for half bridge C requires close decoupling of 2uF capacitor GND_C", 42 PVDD_B (power) "Power supply input for half bridge B requires close decoupling of 2uF capacitor GND_B", 43 PVDD_B (power) "Power supply input for half bridge B requires close decoupling of 2uF capacitor GND_B", 46 GND_B (power) "Power ground for half bridge B", 47 GND_B (power) "Power ground for half bridge B", 48 GND_A (power) "Power ground for half bridge A", 49 GND_A (power) "Power ground for half bridge A", 50 PVDD_A (power) "Power supply input for half bridge A requires close decoupling of 2uF capacitor GND_A", 51 PVDD_A (power) "Power supply input for half bridge A requires close decoupling of 2uF capacitor GND_A", 55 GVDD_A (power) "Gate-drive voltage supply requires 0.1uF capacitor to GND", 56 GVDD_B (power) "Gate drive voltage supply requires 0.1uF capacitor to GND", 57 GND (power) "Ground", 58 GND (power) "Ground", 64 VDD (power) "Power supply for digital voltage regulator requires a 47uF capacitor in parallel with a 0.1uF capacitor to GND for decoupling."
part C pins: 13 NC "No connect, pins may be grounded.", 14 NC "No connect, pins may be grounded.", 59 NC "No connect; pins may be grounded.", 60 NC "No connect; pins may be grounded.", 61 NC "No connect; pins may be grounded.", 62 NC "No connect; pins may be grounded."

## TAS5614APHDR
designator U?
150 W Stereo / 300 W Mono PurePath(TM) HD Digital-Input Power Stage, 0 to 70 degC, 64-pin QFP (PHD64), Green (RoHS & no Sb/Br); Manufacturer: Texas Instruments; PartNumber: TAS5614APHDR; Analog Supply Max [V]: 13.2; Analog Supply Min [V]: 10.8; Input Type: PWM; Max. Number of Speaker Outputs: 4; Power Stage Supply Min(V): 18; SubFamily: Mid/High-Power Amplifier; DatasheetVersion: SLAS712B; PackageVersion: 4087742/E, 10/2008; PackageReference: PHD64; PackageDescription: 64-Pin Plastic Flat Pack, Body 14 x 14 mm, Pitch 0.8 mm; Supplier 1: Digi-Key; Supplier Part Number 1: 296-27617-2-ND; Supplier 2: Digi-Key; Supplier Part Number 2: 296-27617-1-ND; Supplier 3: Digi-Key; Supplier Part Number 3: 296-27617-6-ND; Supplier 4: Mouser; Supplier Part Number 4: 595-TAS5614APHDR; Eco-Plan: Green (RoHS & no Sb/Br); Mounting Technology: Surface Mount; Code_JEDEC: MS-026; ComponentLink1Description: Manufacturer URL; ComponentLink1URL: http://www.ti.com/; ComponentLink2Description: Datasheet; ComponentLink2URL: http://www.ti.com/general/docs/lit/getliterature.tsp?genericPartNumber=TAS5614A&fileType=pdf; ComponentLink3Description: Package Specification; ComponentLink3URL: http://www.ti.com/lit/ml/mpqf047d/mpqf047d.pdf
footprint TI-PHD64_N (QFP, 64-Leads, Body 14x14mm, Pitch 0.8mm, IPC Medium Density)
footprint TI-PHD64_L (QFP, 64-Leads, Body 14x14mm, Pitch 0.8mm, IPC High Density)
footprint TI-PHD64_M (QFP, 64-Leads, Body 14x14mm, Pitch 0.8mm, IPC Low Density)
part A pins: 1 OC_ADJ (in) "Analog overcurrent programming pin requires resistor to ground.", 2 ~{RESET} (in) "Device reset input; active-low", 3 C_STARTUP "Startup ramp requires a charging capacitor of 4.7 nF to GND", 4 INPUT_A (in) "Input signal for half bridge A", 5 INPUT_B (in) "Input signal for half bridge B", 6 VI_CM "Analog comparator reference node requires close decoupling of 4.7uF to GND", 9 VREG "Digital regulator supply filter pin requires 0.1uF capacitor to GND.", 10 INPUT_C (in) "Input signal for half bridge C", 11 INPUT_D (in) "Input signal for half bridge D", 12 TEST (in) "Connect to VREG node", 15 ~{SD} (oc) "Shutdown signal, open-drain, active-low", 16 ~{OTW1} (oc) "Overtemperature warning signal, open-drain, active-low", 17 ~{OTW2} (oc) "Overtemperature warning signal, open-drain, active-low", 18 ~{CLIP} (oc) "Clipping warning; open drain; active-low", 19 READY (oc) "Normal operation; open-drain; active-high", 20 M1 (in) "Mode selection", 21 M2 (in) "Mode selection", 22 M3 (in) "Mode selection", 27 BST_D "HS bootstrap supply (BST), external 0.033uF capacitor to OUT_D required.", 28 OUT_D (hiz) "Output, half bridge D", 29 OUT_D (hiz) "Output, half bridge D", 36 OUT_C (hiz) "Output, half bridge C", 37 OUT_C (hiz) "Output, half bridge C", 40 BST_C "HS bootstrap supply (BST), external 0.033uF capacitor to OUT_C required.", 41 BST_B "HS bootstrap supply (BST), external 0.033uF capacitor to OUT_B required.", 44 OUT_B (hiz) "Output, half bridge B", 45 OUT_B (hiz) "Output, half bridge B", 52 OUT_A (hiz) "Output, half bridge A", 53 OUT_A (hiz) "Output, half bridge A", 54 BST_A "HS bootstrap supply (BST), external 0.033uF capacitor to OUT_A required.", 63 PSU_REF "PSU Reference requires close decoupling of 4.7uF to GND"
part B pins: 7 GND (power) "Ground", 8 AGND (power) "Analog ground", 23 GND (power) "Ground", 24 GND (power) "Ground", 25 GVDD_C (power) "Gate drive voltage supply requires 0.1uF capacitor to GND", 26 GVDD_D (power) "Gate drive voltage supply requires 0.1uF capacitor to GND", 30 PVDD_D (power) "Power supply input for half bridge D requires close decoupling of 2uF capacitor GND_D", 31 PVDD_D (power) "Power supply input for half bridge D requires close decoupling of 2uF capacitor GND_D", 32 GND_D (power) "Power ground for half bridge D", 33 GND_D (power) "Power ground for half bridge D", 34 GND_C (power) "Power ground for half bridge C", 35 GND_C (power) "Power ground for half bridge C", 38 PVDD_C (power) "Power supply input for half bridge C requires close decoupling of 2uF capacitor GND_C", 39 PVDD_C (power) "Power supply input for half bridge C requires close decoupling of 2uF capacitor GND_C", 42 PVDD_B (power) "Power supply input for half bridge B requires close decoupling of 2uF capacitor GND_B", 43 PVDD_B (power) "Power supply input for half bridge B requires close decoupling of 2uF capacitor GND_B", 46 GND_B (power) "Power ground for half bridge B", 47 GND_B (power) "Power ground for half bridge B", 48 GND_A (power) "Power ground for half bridge A", 49 GND_A (power) "Power ground for half bridge A", 50 PVDD_A (power) "Power supply input for half bridge A requires close decoupling of 2uF capacitor GND_A", 51 PVDD_A (power) "Power supply input for half bridge A requires close decoupling of 2uF capacitor GND_A", 55 GVDD_A (power) "Gate-drive voltage supply requires 0.1uF capacitor to GND", 56 GVDD_B (power) "Gate drive voltage supply requires 0.1uF capacitor to GND", 57 GND (power) "Ground", 58 GND (power) "Ground", 64 VDD (power) "Power supply for digital voltage regulator requires a 47uF capacitor in parallel with a 0.1uF capacitor to GND for decoupling."
part C pins: 13 NC "No connect, pins may be grounded.", 14 NC "No connect, pins may be grounded.", 59 NC "No connect; pins may be grounded.", 60 NC "No connect; pins may be grounded.", 61 NC "No connect; pins may be grounded.", 62 NC "No connect; pins may be grounded."

## TAS5630BDKD
designator U?
Analog Input 300 W Stereo Class D Amplifier with Integrated Feedback, 0 to 70 degC, 44-pin SOP (DKD44), Green (RoHS & no Sb/Br); Manufacturer: Texas Instruments; PartNumber: TAS5630BDKD; Analog Supply Max [V]: 13.2; Analog Supply Min [V]: 10.8; Max. Number of Speaker Outputs: 4; Power Stage Supply Min(V): 25; SubFamily: Mid/High-Power Amplifier; DatasheetVersion: SLES217C; PackageVersion: 4204421-3/K, 06/2012; PackageReference: DKD44; PackageDescription: 44-Pin Plastic Small Outline, Body 11 x 15.9 mm, Pitch 0.65 mm; Supplier 1: Digi-Key; Supplier Part Number 1: 296-34189-5-ND; Supplier 2: Newark; Supplier Part Number 2: 74T5390; Supplier 3: Mouser; Supplier Part Number 3: 595-TAS5630BDKD; Eco-Plan: Green (RoHS & no Sb/Br); Input Type: Analog; Mounting Technology: Surface Mount; ComponentLink1Description: Manufacturer URL; ComponentLink1URL: http://www.ti.com/; ComponentLink2Description: Datasheet; ComponentLink2URL: http://www.ti.com/general/docs/lit/getliterature.tsp?genericPartNumber=TAS5630B&fileType=pdf; ComponentLink3Description: Package Specification; ComponentLink3URL: http://www.ti.com/litv/pdf/mpdi001b
footprint TI-DKD44_N (SOP, 44-Leads, Body 15.9x11mm, Pitch 0.65mm, IPC Medium Density)
footprint TI-DKD44_L (SOP, 44-Leads, Body 15.9x11mm, Pitch 0.65mm, IPC High Density)
footprint TI-DKD44_M (SOP, 44-Leads, Body 15.9x11mm, Pitch 0.65mm, IPC Low Density)
part A pins: 1 PSU_REF, 3 OC_ADJ (in), 4 ~{RESET} (in) "Device reset Input; active low", 5 C_STARTUP, 6 INPUT_A (in) "Input signal for half bridge A", 7 INPUT_B (in) "Input signal for half bridge B", 8 VI_CM, 11 VREG, 12 INPUT_C (in) "Input signal for half bridge C", 13 INPUT_D (in) "Input signal for half bridge D", 14 FREQ_ADJ (in), 15 OSC_IO+ (io) "Oscillator master/slave output/input.", 16 OSC_IO- (io) "Oscillator master/slave output/input.", 17 ~{SD} (oc) "Shutdown signal, open-drain, active-low", 18 ~{OTW} (oc) "Overtemperature warning signal, open-drain, active-low", 19 READY (oc) "Normal operation; open-drain; active-high", 20 M1 (in) "Mode selection", 21 M2 (in) "Mode selection", 22 M3 (in) "Mode selection", 24 BST_D "HS bootstrap supply (BST), external 0.033-uF capacitor to OUT_D required.", 27 OUT_D (hiz) "Output, half bridge D", 28 OUT_D (hiz) "Output, half bridge D", 31 OUT_C (hiz) "Output, half bridge C", 33 BST_C "HS bootstrap supply (BST), external 0.033-uF capacitor to OUT_C required.", 34 BST_B "HS bootstrap supply (BST), external 0.033-uF capacitor to OUT_B required.", 36 OUT_B (hiz) "Output, half bridge B", 39 OUT_A (hiz) "Output, half bridge A", 40 OUT_A (hiz) "Output, half bridge A", 43 BST_A "HS bootstrap supply (BST), external 0.033-uF capacitor to OUT_A required."
part B pins: 2 VDD (power) "Power supply for internal voltage regulator requires a 10-uF capacitor with a 0.1-uF capacitor to GND for decoupling.", 9 GND (power) "Ground", 10 AGND (power) "Analog ground", 23 GVDD_CD (power) "Gate drive voltage supply requires 0.22 uF capacitor to GND_C/GND_D", 25 PVDD_D (power), 26 PVDD_D (power), 29 GND_D (power) "Power ground for half bridge D", 30 GND_C (power) "Power ground for half bridge C", 32 PVDD_C (power), 35 PVDD_B (power), 37 GND_B (power) "Power ground for half bridge B", 38 GND_A (power) "Power ground for half bridge A", 41 PVDD_A (power), 42 PVDD_A (power), 44 GVDD_AB (power) "Gate drive voltage supply requires 0.22 uF capacitor to GND_A/GND_B"

## TAS5630BDKDR
designator U?
Analog Input 300 W Stereo Class D Amplifier with Integrated Feedback, 0 to 70 degC, 44-pin SOP (DKD44), Green (RoHS & no Sb/Br); Manufacturer: Texas Instruments; PartNumber: TAS5630BDKDR; Analog Supply Max [V]: 13.2; Analog Supply Min [V]: 10.8; Max. Number of Speaker Outputs: 4; Power Stage Supply Min(V): 25; SubFamily: Mid/High-Power Amplifier; DatasheetVersion: SLES217C; PackageVersion: 4204421-3/K, 06/2012; PackageReference: DKD44; PackageDescription: 44-Pin Plastic Small Outline, Body 11 x 15.9 mm, Pitch 0.65 mm; Supplier 1: Digi-Key; Supplier Part Number 1: 296-29894-2-ND; Supplier 2: Digi-Key; Supplier Part Number 2: 296-29894-1-ND; Supplier 3: Digi-Key; Supplier Part Number 3: 296-29894-6-ND; Supplier 4: Mouser; Supplier Part Number 4: 595-TAS5630BDKDR; Eco-Plan: Green (RoHS & no Sb/Br); Input Type: Analog; Mounting Technology: Surface Mount; ComponentLink1Description: Manufacturer URL; ComponentLink1URL: http://www.ti.com/; ComponentLink2Description: Datasheet; ComponentLink2URL: http://www.ti.com/general/docs/lit/getliterature.tsp?genericPartNumber=TAS5630B&fileType=pdf; ComponentLink3Description: Package Specification; ComponentLink3URL: http://www.ti.com/litv/pdf/mpdi001b
footprint TI-DKD44_N (SOP, 44-Leads, Body 15.9x11mm, Pitch 0.65mm, IPC Medium Density)
footprint TI-DKD44_L (SOP, 44-Leads, Body 15.9x11mm, Pitch 0.65mm, IPC High Density)
footprint TI-DKD44_M (SOP, 44-Leads, Body 15.9x11mm, Pitch 0.65mm, IPC Low Density)
part A pins: 1 PSU_REF, 3 OC_ADJ (in), 4 ~{RESET} (in) "Device reset Input; active low", 5 C_STARTUP, 6 INPUT_A (in) "Input signal for half bridge A", 7 INPUT_B (in) "Input signal for half bridge B", 8 VI_CM, 11 VREG, 12 INPUT_C (in) "Input signal for half bridge C", 13 INPUT_D (in) "Input signal for half bridge D", 14 FREQ_ADJ (in), 15 OSC_IO+ (io) "Oscillator master/slave output/input.", 16 OSC_IO- (io) "Oscillator master/slave output/input.", 17 ~{SD} (oc) "Shutdown signal, open-drain, active-low", 18 ~{OTW} (oc) "Overtemperature warning signal, open-drain, active-low", 19 READY (oc) "Normal operation; open-drain; active-high", 20 M1 (in) "Mode selection", 21 M2 (in) "Mode selection", 22 M3 (in) "Mode selection", 24 BST_D "HS bootstrap supply (BST), external 0.033-uF capacitor to OUT_D required.", 27 OUT_D (hiz) "Output, half bridge D", 28 OUT_D (hiz) "Output, half bridge D", 31 OUT_C (hiz) "Output, half bridge C", 33 BST_C "HS bootstrap supply (BST), external 0.033-uF capacitor to OUT_C required.", 34 BST_B "HS bootstrap supply (BST), external 0.033-uF capacitor to OUT_B required.", 36 OUT_B (hiz) "Output, half bridge B", 39 OUT_A (hiz) "Output, half bridge A", 40 OUT_A (hiz) "Output, half bridge A", 43 BST_A "HS bootstrap supply (BST), external 0.033-uF capacitor to OUT_A required."
part B pins: 2 VDD (power) "Power supply for internal voltage regulator requires a 10-uF capacitor with a 0.1-uF capacitor to GND for decoupling.", 9 GND (power) "Ground", 10 AGND (power) "Analog ground", 23 GVDD_CD (power) "Gate drive voltage supply requires 0.22 uF capacitor to GND_C/GND_D", 25 PVDD_D (power), 26 PVDD_D (power), 29 GND_D (power) "Power ground for half bridge D", 30 GND_C (power) "Power ground for half bridge C", 32 PVDD_C (power), 35 PVDD_B (power), 37 GND_B (power) "Power ground for half bridge B", 38 GND_A (power) "Power ground for half bridge A", 41 PVDD_A (power), 42 PVDD_A (power), 44 GVDD_AB (power) "Gate drive voltage supply requires 0.22 uF capacitor to GND_A/GND_B"

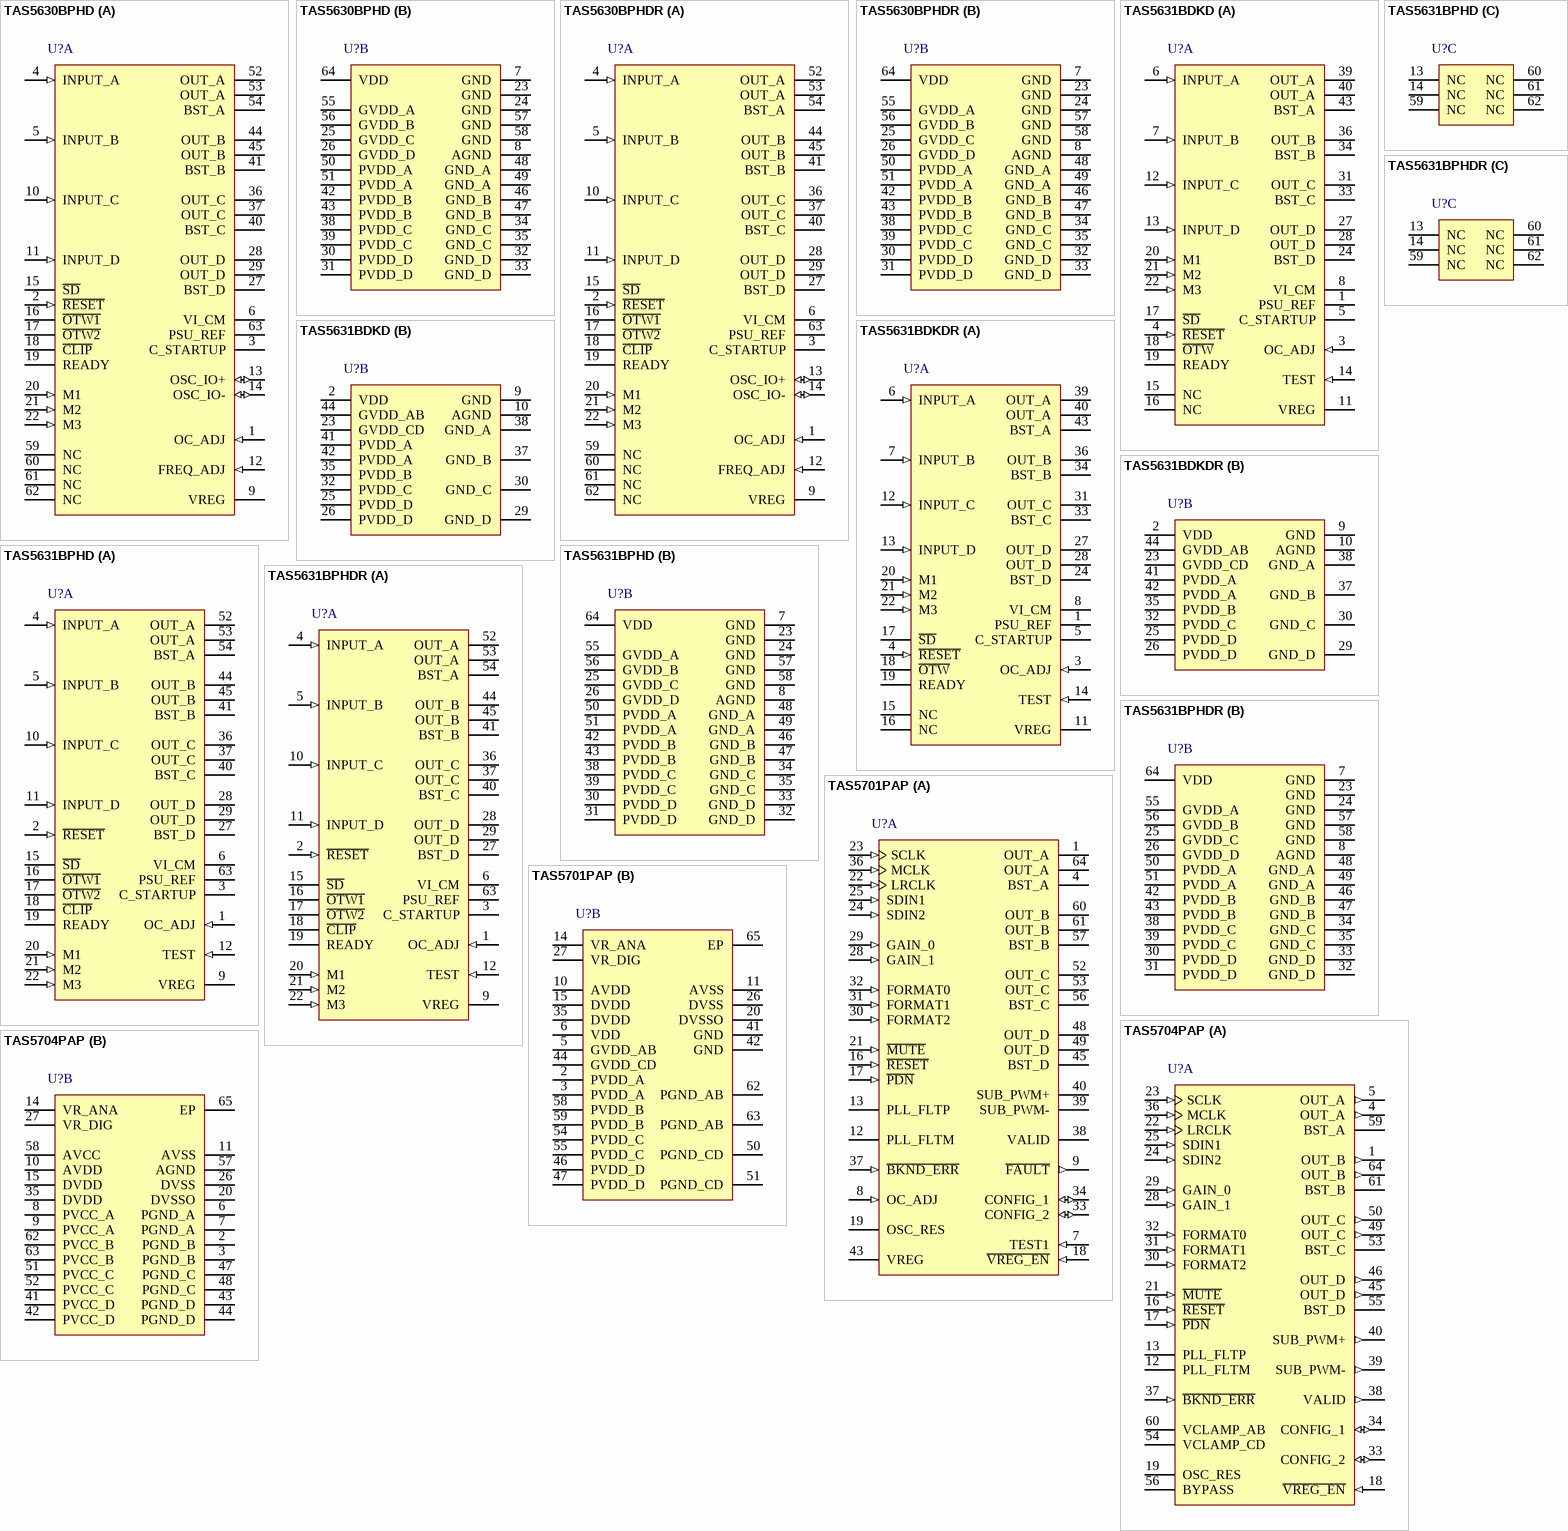
[diagram p18: symbols TAS5630BPHD to TAS5704PAP]